# EAGLE library part ITG/MPU_MODULE (library zumy_ucr)
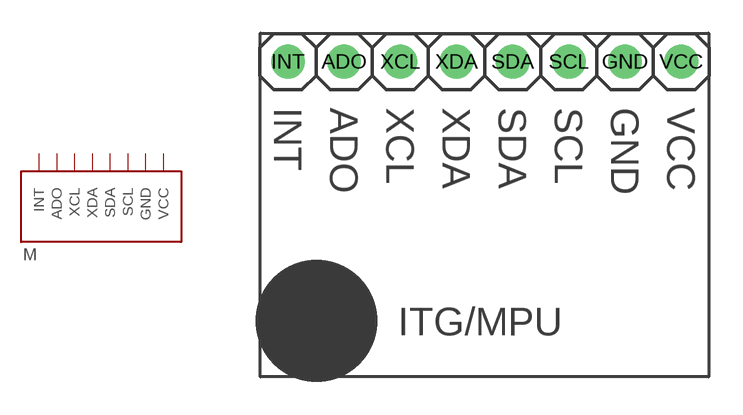
[diagram p1: symbol with the pads of ITG/MPU_MODULE; footprint ITG/MPU_MODULE]

Designator prefix M

## ITG/MPU_MODULE  [ITG/MPU_MODULE]
ADO  ADO
GND  GND
INT  INT
SCL  SCL
SDA  SDA
VCC  VCC
XCL  XCL
XDA  XDA

## Footprint ITG/MPU_MODULE (pad centres in mm)
drill 1.016: ADO -6.372,7.919; GND 6.328,7.919; INT -8.912,7.919; SCL 3.788,7.919; SDA 1.248,7.919; VCC 8.868,7.919; XCL -3.832,7.919; XDA -1.292,7.919
hole 2.4 at -7.62,-3.81